# EAGLE library part CAMERA (library PIC32)
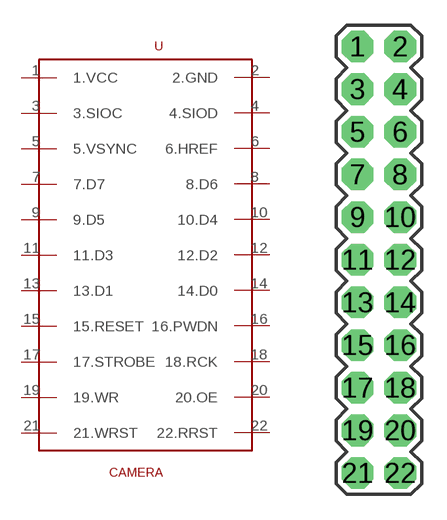
[diagram p11: symbol with the pads of CAMERA; footprint CAMERA]

Designator prefix -

## CAMERA  [CAMERA]
1  1.VCC
2  2.GND
3  3.SIOC
4  4.SIOD
5  5.VSYNC
6  6.HREF
7  7.D7
8  8.D6
9  9.D5
10  10.D4
11  11.D3
12  12.D2
13  13.D1
14  14.D0
15  15.RESET
16  16.PWDN
17  17.STROBE
18  18.RCK
19  19.WR
20  20.OE
21  21.WRST
22  22.RRST

## Footprint CAMERA (pad centres in mm)
drill 1.016 pad 1.88 octagon: 1 -1.27,12.7; 2 1.27,12.7; 3 -1.27,10.16; 4 1.27,10.16; 5 -1.27,7.62; 6 1.27,7.62; 7 -1.27,5.08; 8 1.27,5.08; 9 -1.27,2.54; 10 1.27,2.54; 11 -1.27,0; 12 1.27,0; 13 -1.27,-2.54; 14 1.27,-2.54; 15 -1.27,-5.08; 16 1.27,-5.08; 17 -1.27,-7.62; 18 1.27,-7.62; 19 -1.27,-10.16; 20 1.27,-10.16; 21 -1.27,-12.7; 22 1.27,-12.7